# EAGLE library part RF24013 (library rf24)
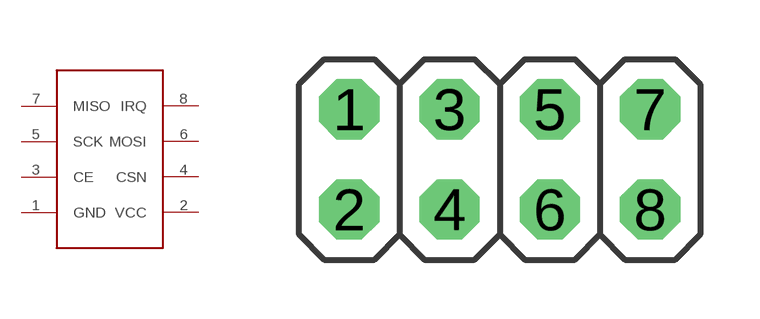
[diagram p0: symbol with the pads of PIN; footprint PIN]

Designator prefix -

## RF24013  [PIN]
1  GND  pwr
2  VCC  pwr
3  CE  in
4  CSN  in
5  SCK  in
6  MOSI  in
7  MISO
8  IRQ

## Footprint PIN (pad centres in mm)
drill 1.016 octagon: 1 -3.81,1.27; 2 -3.81,-1.27; 3 -1.27,1.27; 4 -1.27,-1.27; 5 1.27,1.27; 6 1.27,-1.27; 7 3.81,1.27; 8 3.81,-1.27